# EAGLE library part BQ24075 (library Components)
LiPo Battery Managment The bq2407x series of devices are integrated Li-Ion linear chargers and system power path management devices targeted at space-limited portable applications. The devices operate from either a USB port or an AC adapter and support charge currents up to 1.5 A. The input voltage range with input overvoltage protection supports unregulated adapters. The USB input current limit accuracy and start up sequence allow the bq2407x to meet USB-IF inrush current specifications. Additionally, the input dynamic power management (V IN -DPM) prevents the charger from crashing incorrectly configured USB sources. Mouser <https://www.mouser.com/ProductDetail/BQ24075RGTR>
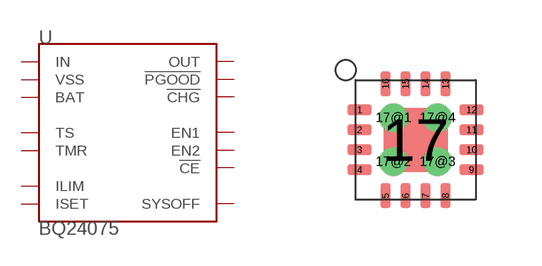
[diagram p1: symbol with the pads of VQFN-16; footprint VQFN-16]

Designator prefix -

## BQ24075BQ24075 (VALUE: BQ24075)  [VQFN-16]
1  TS
2  BAT
3  BAT
4  !CE
5  EN2
6  EN1
7  !PGOOD  out
8  VSS  pwr
9  !CHG  out
10  OUT
11  OUT
12  ILIM  pas
13  IN  pwr
14  TMR
15  SYSOFF
16  ISET  pas
17  VSS  pwr
17@1  VSS  pwr
17@2  VSS  pwr
17@3  VSS  pwr
17@4  VSS  pwr

## Footprint VQFN-16 (pad centres in mm)
smd 0.6 x 0.25: 1 -1.4,0.75; 2 -1.4,0.25; 3 -1.4,-0.25; 4 -1.4,-0.75; 9 1.4,-0.75; 10 1.4,-0.25; 11 1.4,0.25; 12 1.4,0.75
smd 0.25 x 0.6: 5 -0.75,-1.4; 6 -0.25,-1.4; 7 0.25,-1.4; 8 0.75,-1.4; 13 0.75,1.4; 14 0.25,1.4; 15 -0.25,1.4; 16 -0.75,1.4
smd 1.6 x 1.6: 17 0,0
drill 0.2 pad 0.254: 17@1 -0.55,0.55; 17@2 -0.55,-0.55; 17@3 0.55,-0.55; 17@4 0.55,0.55